# EAGLE library part LPC2106FBD48/01,15 (library NXP_By_element14_Batch_1)
Microcontrollers
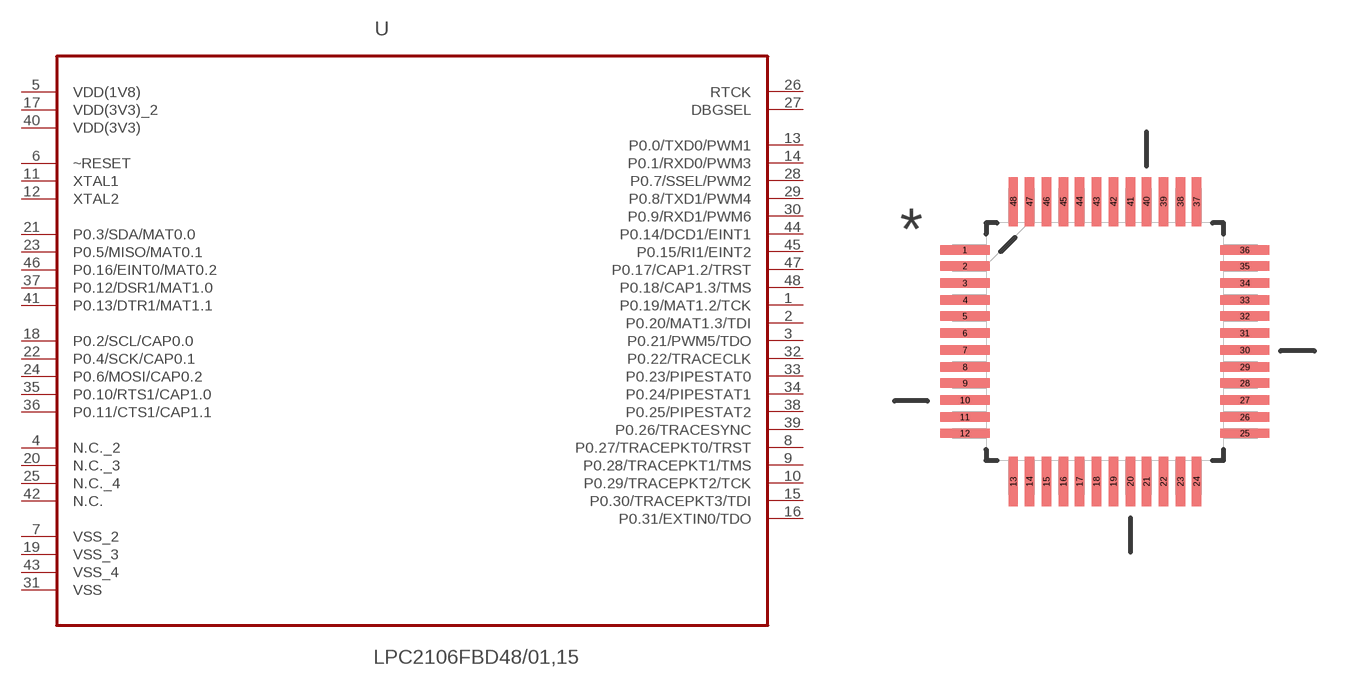
[diagram p357: symbol with the pads of QFP50P900X900X160-48N; footprint QFP50P900X900X160-48N]

Designator prefix U

## LPC2106FBD48/01,15 (MPN: LPC2106FBD48/01,15; OC_FARNELL: 1868297; OC_NEWARK: 70R5613; PACKAGE: LQFP-48; SUPPLIER: NXP)  [QFP50P900X900X160-48N]
1  P0.19/MAT1.2/TCK  pas
2  P0.20/MAT1.3/TDI  pas
3  P0.21/PWM5/TDO  pas
4  N.C._2  pas
5  VDD(1V8)  pas
6  ~RESET  pas
7  VSS_2  pas
8  P0.27/TRACEPKT0/TRST  pas
9  P0.28/TRACEPKT1/TMS  pas
10  P0.29/TRACEPKT2/TCK  pas
11  XTAL1  pas
12  XTAL2  pas
13  P0.0/TXD0/PWM1  pas
14  P0.1/RXD0/PWM3  pas
15  P0.30/TRACEPKT3/TDI  pas
16  P0.31/EXTIN0/TDO  pas
17  VDD(3V3)_2  pas
18  P0.2/SCL/CAP0.0  pas
19  VSS_3  pas
20  N.C._3  pas
21  P0.3/SDA/MAT0.0  pas
22  P0.4/SCK/CAP0.1  pas
23  P0.5/MISO/MAT0.1  pas
24  P0.6/MOSI/CAP0.2  pas
25  N.C._4  pas
26  RTCK  pas
27  DBGSEL  pas
28  P0.7/SSEL/PWM2  pas
29  P0.8/TXD1/PWM4  pas
30  P0.9/RXD1/PWM6  pas
31  VSS  pas
32  P0.22/TRACECLK  pas
33  P0.23/PIPESTAT0  pas
34  P0.24/PIPESTAT1  pas
35  P0.10/RTS1/CAP1.0  pas
36  P0.11/CTS1/CAP1.1  pas
37  P0.12/DSR1/MAT1.0  pas
38  P0.25/PIPESTAT2  pas
39  P0.26/TRACESYNC  pas
40  VDD(3V3)  pas
41  P0.13/DTR1/MAT1.1  pas
42  N.C.  pas
43  VSS_4  pas
44  P0.14/DCD1/EINT1  pas
45  P0.15/RI1/EINT2  pas
46  P0.16/EINT0/MAT0.2  pas
47  P0.17/CAP1.2/TRST  pas
48  P0.18/CAP1.3/TMS  pas

## Footprint QFP50P900X900X160-48N (pad centres in mm)
smd 1.473 x 0.279: 1 -4.191,2.743; 2 -4.191,2.261; 3 -4.191,1.753; 4 -4.191,1.245; 5 -4.191,0.762; 6 -4.191,0.254; 7 -4.191,-0.254; 8 -4.191,-0.762; 9 -4.191,-1.245; 10 -4.191,-1.753; 11 -4.191,-2.261; 12 -4.191,-2.743; 25 4.191,-2.743; 26 4.191,-2.261; 27 4.191,-1.753; 28 4.191,-1.245; 29 4.191,-0.762; 30 4.191,-0.254; 31 4.191,0.254; 32 4.191,0.762; 33 4.191,1.245; 34 4.191,1.753; 35 4.191,2.261; 36 4.191,2.743
smd 0.279 x 1.473: 13 -2.743,-4.191; 14 -2.261,-4.191; 15 -1.753,-4.191; 16 -1.245,-4.191; 17 -0.762,-4.191; 18 -0.254,-4.191; 19 0.254,-4.191; 20 0.762,-4.191; 21 1.245,-4.191; 22 1.753,-4.191; 23 2.261,-4.191; 24 2.743,-4.191; 37 2.743,4.191; 38 2.261,4.191; 39 1.753,4.191; 40 1.245,4.191; 41 0.762,4.191; 42 0.254,4.191; 43 -0.254,4.191; 44 -0.762,4.191; 45 -1.245,4.191; 46 -1.753,4.191; 47 -2.261,4.191; 48 -2.743,4.191